# Altium footprint library Handheld.PcbLib: 77 footprints (part 4 of 5)
Each footprint in its own frame and in the unit in brackets; x right, y up, seen from the top. Pads: shape width x height; smd on the part's side, far side on the other; paste and mask are expansions set on the pad; w line width, h text height; cw(c..) or ccw(c..) is an arc to the next point about the centre after c.
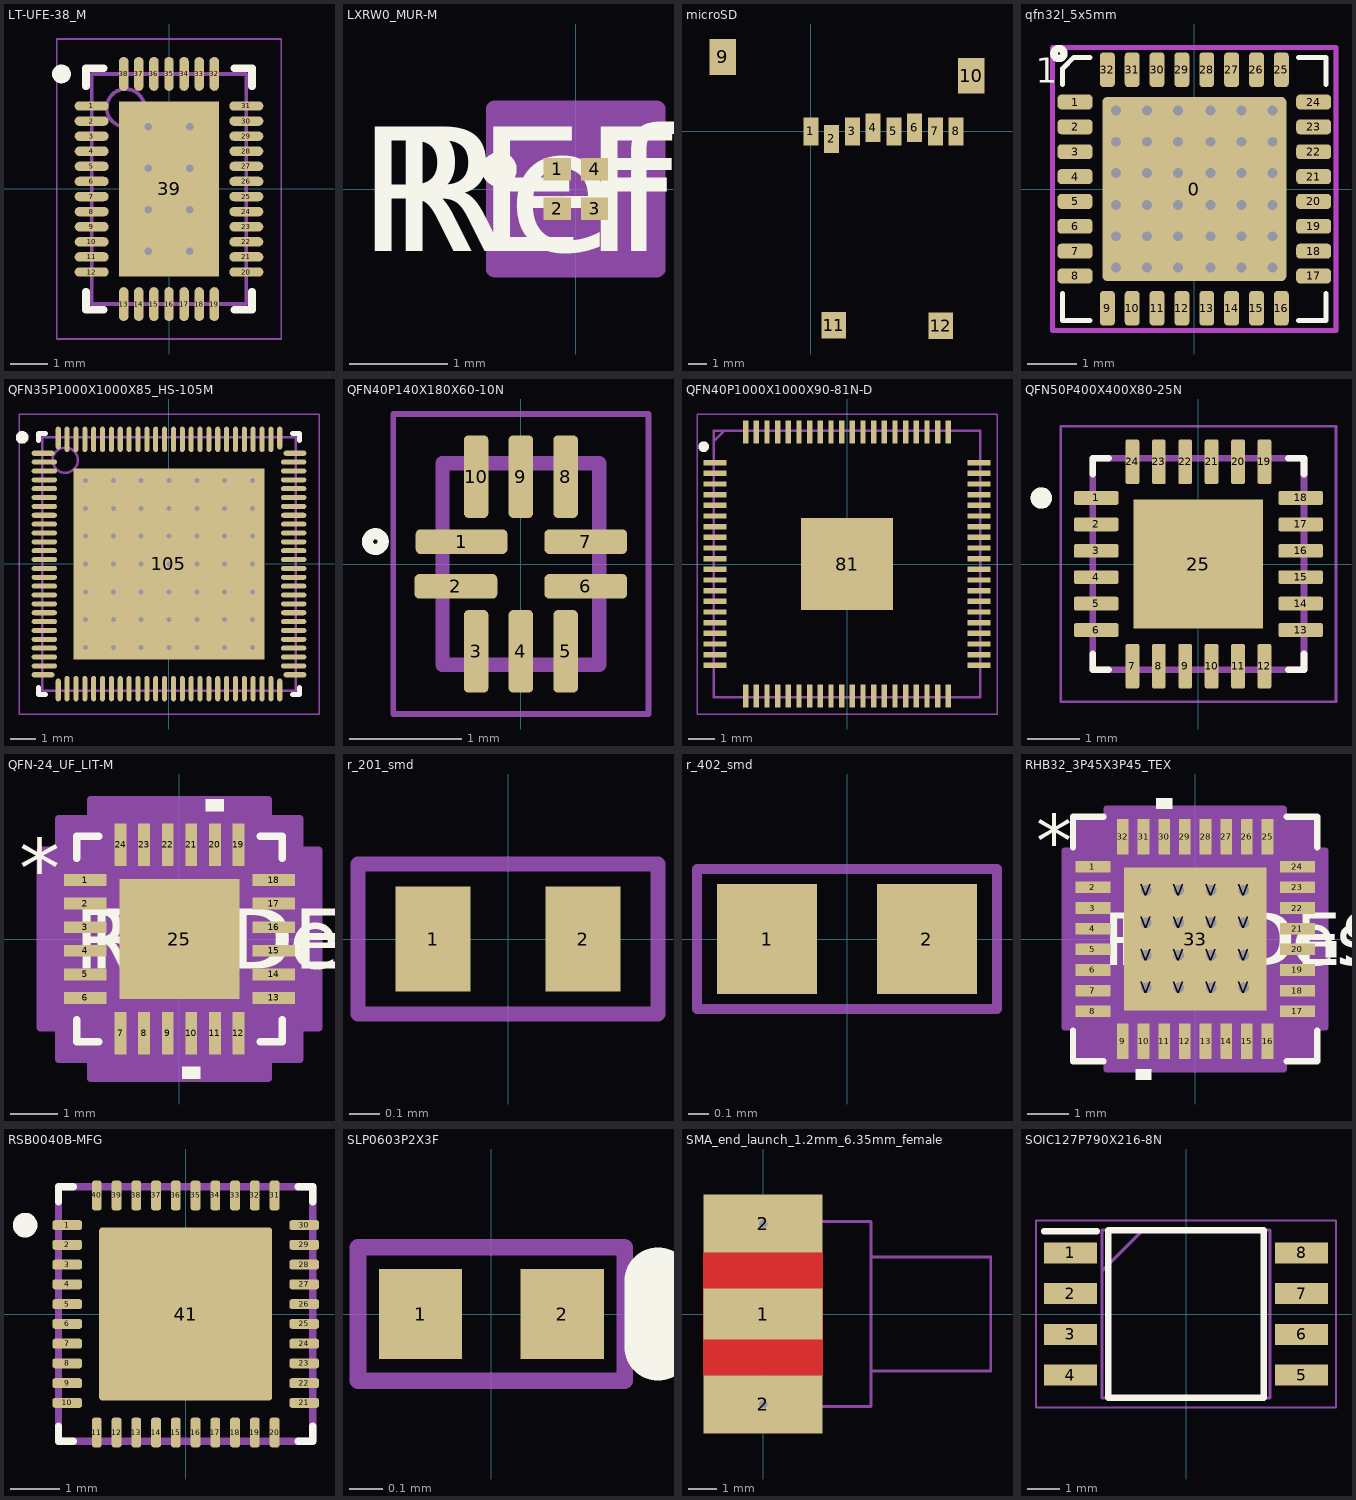
[diagram p3: the footprints below, top view; thin cyan lines are the x and y axes]

## LT-UFE-38_M [mm] "QFN, 38-Leads, Body 6.1x4.1mm, Pitch 0.4mm, Thermal Pad 2.65x4.65mm, IPC Low Density"
height 0.8
pads (39):
  oval 0.9x0.25 smd: 1(-2.05,2.2) 2(-2.05,1.8) 3(-2.05,1.4) 4(-2.05,1) 5(-2.05,0.6) 6(-2.05,0.2) 7(-2.05,-0.2) 8(-2.05,-0.6) 9(-2.05,-1) 10(-2.05,-1.4) 11(-2.05,-1.8) 12(-2.05,-2.2) 20(2.05,-2.2) 21(2.05,-1.8) 22(2.05,-1.4) 23(2.05,-1) 24(2.05,-0.6) 25(2.05,-0.2) 26(2.05,0.2) 27(2.05,0.6) 28(2.05,1) 29(2.05,1.4) 30(2.05,1.8) 31(2.05,2.2)
  oval 0.25x0.9 smd: 13(-1.2,-3.05) 14(-0.8,-3.05) 15(-0.4,-3.05) 16(0,-3.05) 17(0.4,-3.05) 18(0.8,-3.05) 19(1.2,-3.05) 32(1.2,3.05) 33(0.8,3.05) 34(0.4,3.05) 35(0,3.05) 36(-0.4,3.05) 37(-0.8,3.05) 38(-1.2,3.05)
  rect 2.65x4.65 smd: 39(0,0)
via 0.55,-1.65 diameter 0.5 hole 0.2
via -0.55,-1.65 diameter 0.5 hole 0.2
via 0.55,-0.55 diameter 0.5 hole 0.2
via -0.55,-0.55 diameter 0.5 hole 0.2
via 0.55,0.55 diameter 0.5 hole 0.2
via -0.55,0.55 diameter 0.5 hole 0.2
via 0.55,1.65 diameter 0.5 hole 0.2
via -0.55,1.65 diameter 0.5 hole 0.2
Top Overlay:
  circle w0.25: c-2.85,3.05 r0.125
  lines w0.2: -2.2,-2.725 -2.2,-3.2 -1.725,-3.2 ; -2.2,2.725 -2.2,3.2 -1.725,3.2 ; 1.725,-3.2 2.2,-3.2 2.2,-2.725 ; 1.725,3.2 2.2,3.2 2.2,2.725
Mechanical 13:
  circle w0.1: c-1.15,2.15 r0.5
  lines w0.1: -2.05,-3.05 2.05,-3.05 2.05,3.05 -2.05,3.05 -2.05,-3.05
Mechanical 15:
  lines w0.05: -2.975,-3.975 2.975,-3.975 2.975,3.975 -2.975,3.975 -2.975,-3.975
  lines w0.1: -0.5,0 0.5,0 ; 0,-0.5 0,0.5
3D body: height 0.8, standoff 0, extent -2.05,-3.05 2.05,3.05

## LXRW0_MUR-M [mil]
pads (4):
  rect 11x9 smd paste+0 mask+0: 1(-7.5,7.87) 2(-7.5,-7.87) 3(7.5,-7.87) 4(7.5,7.87)
Top Overlay:
  circle w6: c-30.75,7.87 r4
  text "RefDes" at -75,-25 h50
  text "REFDES" at -87.5,-25 h50
Mechanical 13:
  circle w0: c-2,7.87 r3
  lines w0: -12,12.5 ccw(c0,12.5) 12,12.5
  lines w1: -12.5,-12.5 12.5,-12.5 12.5,12.5 -12.5,12.5 -12.5,-12.5
  text "RefDes2" at -87.5,-25 h50
Mechanical 15:
  region: -32.5,-32.37 -33,-32.37 -33,32.37 -32.5,32.37 -32.5,32.5 32.5,32.5 32.5,32.37 33,32.37 33,-32.37 32.5,-32.37 32.5,-32.5 -32.5,-32.5
  lines w6: -33,-32.37 -33,32.37 -32.5,32.37 -32.5,32.5 32.5,32.5 32.5,32.37 33,32.37 33,-32.37 32.5,-32.37 32.5,-32.5 -32.5,-32.5 -32.5,-32.37 -33,-32.37
3D body "LXRW0_MUR.step": height 12.09, standoff 0, extent -12.52,-12.52 12.52,12.52

## microSD [mm]
pads (12):
  rect 0.8x1.5 smd: 1(0,0) 2(1.1,-0.4) 3(2.2,0) 4(3.3,0.2) 5(4.4,0) 6(5.5,0.2) 7(6.6,0) 8(7.7,0)
  rect 1.4x1.9 smd: 9(-4.675,3.95) 10(8.5,2.95)
  rect 1.3x1.4 smd: 11(1.2,-10.275) 12(6.875,-10.3)
3D body "wurthSDcard.stp": height 1.83, standoff -0.07, extent -5.05,-10.68 8.95,4.53

## qfn32l_5x5mm [mm] "32 Leads, Body 5.0x5.0mm, Pitch 0.50mm, QFN32L"
height 1
pads (33):
  rrect5% 3.7x3.7 smd paste-3.2 mask+0.03: 0(0,0)
  rrect50% 0.7x0.3 smd mask+0.03: 1(-2.4,1.75) 2(-2.4,1.25) 3(-2.4,0.75) 4(-2.4,0.25) 5(-2.4,-0.25) 6(-2.4,-0.75) 7(-2.4,-1.25) 8(-2.4,-1.75) 17(2.4,-1.75) 18(2.4,-1.25) 19(2.4,-0.75) 20(2.4,-0.25) 21(2.4,0.25) 22(2.4,0.75) 23(2.4,1.25) 24(2.4,1.75)
  rrect50% 0.3x0.7 smd mask+0.03: 9(-1.75,-2.4) 10(-1.25,-2.4) 11(-0.75,-2.4) 12(-0.25,-2.4) 13(0.25,-2.4) 14(0.75,-2.4) 15(1.25,-2.4) 16(1.75,-2.4) 25(1.75,2.4) 26(1.25,2.4) 27(0.75,2.4) 28(0.25,2.4) 29(-0.25,2.4) 30(-0.75,2.4) 31(-1.25,2.4) 32(-1.75,2.4)
via -1.575,1.575 diameter 0.4 hole 0.2
via 1.575,1.575 diameter 0.4 hole 0.2
via 0.95,1.575 diameter 0.4 hole 0.2
via -0.95,1.575 diameter 0.4 hole 0.2
via 0.325,1.575 diameter 0.4 hole 0.2
via -0.325,1.575 diameter 0.4 hole 0.2
via -1.575,0.95 diameter 0.4 hole 0.2
via 1.575,0.95 diameter 0.4 hole 0.2
via 0.95,0.95 diameter 0.4 hole 0.2
via -0.95,0.95 diameter 0.4 hole 0.2
via 0.325,0.95 diameter 0.4 hole 0.2
via -0.325,0.95 diameter 0.4 hole 0.2
via -1.575,0.325 diameter 0.4 hole 0.2
via 1.575,0.325 diameter 0.4 hole 0.2
via 0.95,0.325 diameter 0.4 hole 0.2
via -0.95,0.325 diameter 0.4 hole 0.2
via 0.325,0.325 diameter 0.4 hole 0.2
via -0.325,0.325 diameter 0.4 hole 0.2
via -1.575,-0.325 diameter 0.4 hole 0.2
via 1.575,-0.325 diameter 0.4 hole 0.2
via 0.95,-0.325 diameter 0.4 hole 0.2
via -0.95,-0.325 diameter 0.4 hole 0.2
via 0.325,-0.325 diameter 0.4 hole 0.2
via -0.325,-0.325 diameter 0.4 hole 0.2
via -1.575,-0.95 diameter 0.4 hole 0.2
via 1.575,-0.95 diameter 0.4 hole 0.2
via 0.95,-0.95 diameter 0.4 hole 0.2
via -0.95,-0.95 diameter 0.4 hole 0.2
via 0.325,-0.95 diameter 0.4 hole 0.2
via -0.325,-0.95 diameter 0.4 hole 0.2
via -0.325,-1.575 diameter 0.4 hole 0.2
via 0.325,-1.575 diameter 0.4 hole 0.2
via -0.95,-1.575 diameter 0.4 hole 0.2
via 0.95,-1.575 diameter 0.4 hole 0.2
via 1.575,-1.575 diameter 0.4 hole 0.2
via -1.575,-1.575 diameter 0.4 hole 0.2
Top Overlay:
  circle w0.15: c-2.725,2.725 r0.1
  lines w0.1: -2.65,-2.1 -2.65,-2.65 -2.1,-2.65 ; -2.65,2.1 -2.65,2.425 -2.425,2.65 -2.1,2.65 ; 2.1,-2.65 2.65,-2.65 2.65,-2.1 ; 2.1,2.65 2.65,2.65 2.65,2.1
  text "1" at -3.185,2.14 h0.5
Top Paste:
  region: -0.55,1.7 -0.55,0.6 0.55,0.6 0.55,1.7
  region: 0.6,1.7 0.6,0.6 1.7,0.6 1.7,1.7
  region: -1.7,1.7 -1.7,0.6 -0.6,0.6 -0.6,1.7
  region: -1.7,0.55 -1.7,-0.55 -0.6,-0.55 -0.6,0.55
  region: 0.6,0.55 0.6,-0.55 1.7,-0.55 1.7,0.55
  region: -0.55,0.55 -0.55,-0.55 0.55,-0.55 0.55,0.55
  region: -1.7,-0.6 -1.7,-1.7 -0.6,-1.7 -0.6,-0.6
  region: 0.6,-0.6 0.6,-1.7 1.7,-1.7 1.7,-0.6
  region: -0.55,-0.6 -0.55,-1.7 0.55,-1.7 0.55,-0.6
Mechanical 15 keep-out:
  lines w0.1: -2.85,-2.85 -2.85,2.85 2.85,2.85 2.85,-2.85 -2.85,-2.85
3D body "QFN32_5x5.STEP": height 1, standoff 0, extent -2.5,-2.5 2.5,2.5

## QFN35P1000X1000X85_HS-105M [mm] "QFN, 104-Leads, Body 10.00x10.00mm, Pitch 0.35mm, Thermal Pad 7.55x7.55mm, IPC Low Density"
height 0.85
pads (105):
  oval 0.9x0.2 smd: 1(-4.975,4.375) 26(-4.975,-4.375) 53(4.975,-4.375) 78(4.975,4.375)
  oval 1x0.2 smd: 2(-4.925,4.025) 3(-4.925,3.675) 4(-4.925,3.325) 5(-4.925,2.975) 6(-4.925,2.625) 7(-4.925,2.275) 8(-4.925,1.925) 9(-4.925,1.575) 10(-4.925,1.225) 11(-4.925,0.875) 12(-4.925,0.525) 13(-4.925,0.175) 14(-4.925,-0.175) 15(-4.925,-0.525) 16(-4.925,-0.875) 17(-4.925,-1.225) 18(-4.925,-1.575) 19(-4.925,-1.925) 20(-4.925,-2.275) 21(-4.925,-2.625) 22(-4.925,-2.975) 23(-4.925,-3.325) 24(-4.925,-3.675) 25(-4.925,-4.025) 54(4.925,-4.025) 55(4.925,-3.675) 56(4.925,-3.325) 57(4.925,-2.975) 58(4.925,-2.625) 59(4.925,-2.275) 60(4.925,-1.925) 61(4.925,-1.575) 62(4.925,-1.225) 63(4.925,-0.875) 64(4.925,-0.525) 65(4.925,-0.175) 66(4.925,0.175) 67(4.925,0.525) 68(4.925,0.875) 69(4.925,1.225) 70(4.925,1.575) 71(4.925,1.925) 72(4.925,2.275) 73(4.925,2.625) 74(4.925,2.975) 75(4.925,3.325) 76(4.925,3.675) 77(4.925,4.025)
  oval 0.2x0.9 smd: 27(-4.375,-4.975) 52(4.375,-4.975) 79(4.375,4.975) 104(-4.375,4.975)
  oval 0.2x1 smd: 28(-4.025,-4.925) 29(-3.675,-4.925) 30(-3.325,-4.925) 31(-2.975,-4.925) 32(-2.625,-4.925) 33(-2.275,-4.925) 34(-1.925,-4.925) 35(-1.575,-4.925) 36(-1.225,-4.925) 37(-0.875,-4.925) 38(-0.525,-4.925) 39(-0.175,-4.925) 40(0.175,-4.925) 41(0.525,-4.925) 42(0.875,-4.925) 43(1.225,-4.925) 44(1.575,-4.925) 45(1.925,-4.925) 46(2.275,-4.925) 47(2.625,-4.925) 48(2.975,-4.925) 49(3.325,-4.925) 50(3.675,-4.925) 51(4.025,-4.925) 80(4.025,4.925) 81(3.675,4.925) 82(3.325,4.925) 83(2.975,4.925) 84(2.625,4.925) 85(2.275,4.925) 86(1.925,4.925) 87(1.575,4.925) 88(1.225,4.925) 89(0.875,4.925) 90(0.525,4.925) 91(0.175,4.925) 92(-0.175,4.925) 93(-0.525,4.925) 94(-0.875,4.925) 95(-1.225,4.925) 96(-1.575,4.925) 97(-1.925,4.925) 98(-2.275,4.925) 99(-2.625,4.925) 100(-2.975,4.925) 101(-3.325,4.925) 102(-3.675,4.925) 103(-4.025,4.925)
  rect 7.55x7.55 smd: 105(0,0)
via -3.3,3.3 diameter 0.5 hole 0.2
via -2.2,3.3 diameter 0.5 hole 0.2
via -1.1,3.3 diameter 0.5 hole 0.2
via 0,3.3 diameter 0.5 hole 0.2
via 1.1,3.3 diameter 0.5 hole 0.2
via 2.2,3.3 diameter 0.5 hole 0.2
via 3.3,3.3 diameter 0.5 hole 0.2
via -3.3,2.2 diameter 0.5 hole 0.2
via -2.2,2.2 diameter 0.5 hole 0.2
via -1.1,2.2 diameter 0.5 hole 0.2
via 0,2.2 diameter 0.5 hole 0.2
via 1.1,2.2 diameter 0.5 hole 0.2
via 2.2,2.2 diameter 0.5 hole 0.2
via 3.3,2.2 diameter 0.5 hole 0.2
via -3.3,1.1 diameter 0.5 hole 0.2
via -2.2,1.1 diameter 0.5 hole 0.2
via -1.1,1.1 diameter 0.5 hole 0.2
via 0,1.1 diameter 0.5 hole 0.2
via 1.1,1.1 diameter 0.5 hole 0.2
via 2.2,1.1 diameter 0.5 hole 0.2
via 3.3,1.1 diameter 0.5 hole 0.2
via -3.3,0 diameter 0.5 hole 0.2
via -2.2,0 diameter 0.5 hole 0.2
via -1.1,0 diameter 0.5 hole 0.2
via 0,0 diameter 0.5 hole 0.2
via 1.1,0 diameter 0.5 hole 0.2
via 2.2,0 diameter 0.5 hole 0.2
via 3.3,0 diameter 0.5 hole 0.2
via -3.3,-1.1 diameter 0.5 hole 0.2
via -2.2,-1.1 diameter 0.5 hole 0.2
via -1.1,-1.1 diameter 0.5 hole 0.2
via 0,-1.1 diameter 0.5 hole 0.2
via 1.1,-1.1 diameter 0.5 hole 0.2
via 2.2,-1.1 diameter 0.5 hole 0.2
via 3.3,-1.1 diameter 0.5 hole 0.2
via -3.3,-2.2 diameter 0.5 hole 0.2
via -2.2,-2.2 diameter 0.5 hole 0.2
via -1.1,-2.2 diameter 0.5 hole 0.2
via 0,-2.2 diameter 0.5 hole 0.2
via 1.1,-2.2 diameter 0.5 hole 0.2
via 2.2,-2.2 diameter 0.5 hole 0.2
via 3.3,-2.2 diameter 0.5 hole 0.2
via -3.3,-3.3 diameter 0.5 hole 0.2
via -2.2,-3.3 diameter 0.5 hole 0.2
via -1.1,-3.3 diameter 0.5 hole 0.2
via 0,-3.3 diameter 0.5 hole 0.2
via 1.1,-3.3 diameter 0.5 hole 0.2
via 2.2,-3.3 diameter 0.5 hole 0.2
via 3.3,-3.3 diameter 0.5 hole 0.2
Top Overlay:
  circle w0.25: c-5.8,5 r0.125
  lines w0.2: -5.15,-4.875 -5.15,-5.15 -4.875,-5.15 ; -5.15,4.875 -5.15,5.15 -4.875,5.15 ; 4.875,-5.15 5.15,-5.15 5.15,-4.875 ; 4.875,5.15 5.15,5.15 5.15,4.875
Mechanical 13:
  circle w0.1: c-4.1,4.1 r0.5
  lines w0.1: -5,-5 -5,5 5,5 5,-5 -5,-5
Mechanical 15:
  lines w0.05: -5.925,-5.925 -5.925,5.925 5.925,5.925 5.925,-5.925 -5.925,-5.925
  lines w0.1: -0.5,0 0.5,0 ; 0,-0.5 0,0.5
3D body: height 0.85, standoff 0.02, extent -5,-5 5,5

## QFN40P140X180X60-10N [mm]
pads (10):
  rrect40% 0.82x0.22 smd mask+0: 1(-0.53,0.2)
  rrect40% 0.74x0.22 smd mask+0: 2(-0.58,-0.2) 6(0.58,-0.2) 7(0.58,0.2)
  rrect40% 0.22x0.74 smd mask+0: 3(-0.4,-0.78) 4(0,-0.78) 5(0.4,-0.78) 8(0.4,0.78) 9(0,0.78) 10(-0.4,0.78)
Top Overlay:
  circle w0.1: c-1.3,0.2 r0.07
Top Solder:
  region: -0.25,0.371 -0.551,0.371 -0.551,1.2 -0.25,1.2
  region: 0.15,0.371 -0.15,0.371 -0.15,1.2 0.15,1.2
  region: 0.55,0.37 0.25,0.37 0.25,1.2 0.55,1.2
  region: -0.25,-1.204 -0.552,-1.204 -0.552,-0.37 -0.25,-0.37
  region: 0.15,-1.202 -0.15,-1.202 -0.15,-0.37 0.15,-0.37
  region: 0.55,-1.203 0.251,-1.203 0.251,-0.37 0.55,-0.37
  region: -0.08,0.05 -0.991,0.05 -0.991,0.35 -0.08,0.35
  region: 0.99,0.05 0.171,0.05 0.171,0.35 0.99,0.35
  region: -0.17,-0.351 -0.992,-0.351 -0.992,-0.05 -0.17,-0.05
  region: 0.99,-0.35 0.17,-0.35 0.17,-0.05 0.99,-0.05
Mechanical 13:
  lines w0.127: -0.7,-0.9 0.7,-0.9 0.7,0.9 -0.7,0.9 -0.7,-0.9
Mechanical 15:
  lines w0.05: -1.14,-1.34 1.14,-1.34 1.14,1.34 -1.14,1.34 -1.14,-1.34

## QFN40P1000X1000X90-81N-D [mm]
pads (81):
  rect 0.85x0.2 smd: 1(-4.95,3.8) 2(-4.95,3.4) 3(-4.95,3) 4(-4.95,2.6) 5(-4.95,2.2) 6(-4.95,1.8) 7(-4.95,1.4) 8(-4.95,1) 9(-4.95,0.6) 10(-4.95,0.2) 11(-4.95,-0.2) 12(-4.95,-0.6) 13(-4.95,-1) 14(-4.95,-1.4) 15(-4.95,-1.8) 16(-4.95,-2.2) 17(-4.95,-2.6) 18(-4.95,-3) 19(-4.95,-3.4) 20(-4.95,-3.8) 41(4.95,-3.8) 42(4.95,-3.4) 43(4.95,-3) 44(4.95,-2.6) 45(4.95,-2.2) 46(4.95,-1.8) 47(4.95,-1.4) 48(4.95,-1) 49(4.95,-0.6) 50(4.95,-0.2) 51(4.95,0.2) 52(4.95,0.6) 53(4.95,1) 54(4.95,1.4) 55(4.95,1.8) 56(4.95,2.2) 57(4.95,2.6) 58(4.95,3) 59(4.95,3.4) 60(4.95,3.8)
  rect 0.2x0.85 smd: 21(-3.8,-4.95) 22(-3.4,-4.95) 23(-3,-4.95) 24(-2.6,-4.95) 25(-2.2,-4.95) 26(-1.8,-4.95) 27(-1.4,-4.95) 28(-1,-4.95) 29(-0.6,-4.95) 30(-0.2,-4.95) 31(0.2,-4.95) 32(0.6,-4.95) 33(1,-4.95) 34(1.4,-4.95) 35(1.8,-4.95) 36(2.2,-4.95) 37(2.6,-4.95) 38(3,-4.95) 39(3.4,-4.95) 40(3.8,-4.95) 61(3.8,4.95) 62(3.4,4.95) 63(3,4.95) 64(2.6,4.95) 65(2.2,4.95) 66(1.8,4.95) 67(1.4,4.95) 68(1,4.95) 69(0.6,4.95) 70(0.2,4.95) 71(-0.2,4.95) 72(-0.6,4.95) 73(-1,4.95) 74(-1.4,4.95) 75(-1.8,4.95) 76(-2.2,4.95) 77(-2.6,4.95) 78(-3,4.95) 79(-3.4,4.95) 80(-3.8,4.95)
  rect 3.45x3.45 smd: 81(0,0)
Top Overlay:
  circle w0.2: c-5.375,4.4 r0.1
Mechanical 15:
  lines w0.1: -5,4.6 -4.6,5 ; -5,-5 5,-5 5,5 -5,5 -5,-5
Mechanical 20:
  lines w0.05: -5.625,-5.625 5.625,-5.625 5.625,5.625 -5.625,5.625 -5.625,-5.625
3D body "RP2350B.stp": height 0.9, standoff 0, extent -5.05,-5.05 5.05,5.05

## QFN50P400X400X80-25N [mm]
pads (25):
  rrect25% 0.84x0.26 smd: 1(-1.935,1.25) 2(-1.935,0.75) 3(-1.935,0.25) 4(-1.935,-0.25) 5(-1.935,-0.75) 6(-1.935,-1.25) 13(1.935,-1.25) 14(1.935,-0.75) 15(1.935,-0.25) 16(1.935,0.25) 17(1.935,0.75) 18(1.935,1.25)
  rrect25% 0.26x0.84 smd: 7(-1.25,-1.935) 8(-0.75,-1.935) 9(-0.25,-1.935) 10(0.25,-1.935) 11(0.75,-1.935) 12(1.25,-1.935) 19(1.25,1.935) 20(0.75,1.935) 21(0.25,1.935) 22(-0.25,1.935) 23(-0.75,1.935) 24(-1.25,1.935)
  rect 2.45x2.45 smd paste-2: 25(0,0)
Top Overlay:
  circle w0.2: c-2.975,1.25 r0.1
  lines w0.127: -2,-1.7 -2,-2 -1.7,-2 ; -2,1.7 -2,2 -1.7,2 ; 1.7,-2 2,-2 2,-1.7 ; 1.7,2 2,2 2,1.7
Top Paste:
  region: 0.77,-0.77 -0.77,-0.77 -0.77,0.77 0.77,0.77
Mechanical 13:
  circle w0.2: c-2.975,1.25 r0.1
  lines w0.127: -2,-2 2,-2 2,2 -2,2 -2,-2
Mechanical 15:
  lines w0.05: -2.605,-2.605 2.605,-2.605 2.605,2.605 -2.605,2.605 -2.605,-2.605
3D body "step_temp.STEP": height 0.8, standoff 0, extent -2,-2 2,2

## QFN-24_UF_LIT-M [mm]
pads (25):
  rect 0.9x0.25 smd paste+0 mask+0: 1(-2,1.25) 2(-2,0.75) 3(-2,0.25) 4(-2,-0.25) 5(-2,-0.75) 6(-2,-1.25) 13(2,-1.25) 14(2,-0.75) 15(2,-0.25) 16(2,0.25) 17(2,0.75) 18(2,1.25)
  rect 0.25x0.9 smd paste+0 mask+0: 7(-1.25,-2) 8(-0.75,-2) 9(-0.25,-2) 10(0.25,-2) 11(0.75,-2) 12(1.25,-2) 19(1.25,2) 20(0.75,2) 21(0.25,2) 22(-0.25,2) 23(-0.75,2) 24(-1.25,2)
  rect 2.55x2.55 smd paste-1.275 mask+0: 25(0,0)
Top Overlay:
  region: 0.44,-2.704 0.059,-2.704 0.059,-2.958 0.44,-2.958
  region: 0.941,2.704 0.56,2.704 0.56,2.958 0.941,2.958
  lines w0.152: -2.177,-1.708 -2.177,-2.177 -1.708,-2.177 ; -2.177,1.708 -2.177,2.177 -1.708,2.177 ; 1.708,-2.177 2.177,-2.177 2.177,-1.708 ; 1.708,2.177 2.177,2.177 2.177,1.708
  text "*" at -3.403,0.865 h1.27
  text "RefDes" at -1.905,-0.635 h1.27
  text "REFDES" at -2.222,-0.635 h1.27
Top Paste:
  region: -0.1,1.175 -1.175,1.175 -1.175,0.1 -0.1,0.1
  region: -0.1,-0.1 -1.175,-0.1 -1.175,-1.175 -0.1,-1.175
  region: 1.175,1.175 0.1,1.175 0.1,0.1 1.175,0.1
  region: 1.175,-0.1 0.1,-0.1 0.1,-1.175 1.175,-1.175
Mechanical 13:
  lines w0.025: -2.05,0.78 -0.78,2.05 ; -2.05,-2.05 2.05,-2.05 2.05,2.05 -2.05,2.05 -2.05,-2.05 ; -2.05,-1.4 -2.05,-1.1 -2.05,-1.4 ; -2.05,-0.9 -2.05,-0.6 -2.05,-0.9 ; -2.05,-0.4 -2.05,-0.1 -2.05,-0.4 ; -2.05,0.1 -2.05,0.4 -2.05,0.1 ; -2.05,0.6 -2.05,0.9 -2.05,0.6 ; -2.05,1.1 -2.05,1.4 -2.05,1.1 ; -1.4,-2.05 -1.1,-2.05 -1.4,-2.05 ; -1.4,2.05 -1.1,2.05 -1.4,2.05 ; -0.9,-2.05 -0.6,-2.05 -0.9,-2.05 ; -0.9,2.05 -0.6,2.05 -0.9,2.05 ; -0.4,-2.05 -0.1,-2.05 -0.4,-2.05 ; -0.4,2.05 -0.1,2.05 -0.4,2.05 ; 0.1,-2.05 0.4,-2.05 0.1,-2.05 ; 0.1,2.05 0.4,2.05 0.1,2.05 ; 0.6,-2.05 0.9,-2.05 0.6,-2.05 ; 0.6,2.05 0.9,2.05 0.6,2.05 ; 1.1,-2.05 1.4,-2.05 1.1,-2.05 ; 1.1,2.05 1.4,2.05 1.1,2.05 ; 2.05,-1.4 2.05,-1.1 2.05,-1.4 ; 2.05,-0.9 2.05,-0.6 2.05,-0.9 ; 2.05,-0.4 2.05,-0.1 2.05,-0.4 ; 2.05,0.1 2.05,0.4 2.05,0.1 ; 2.05,0.6 2.05,0.9 2.05,0.6 ; 2.05,1.1 2.05,1.4 2.05,1.1
  text "*" at -1.867,0.865 h1.27
  text "RefDes2" at -2.222,-0.635 h1.27
Mechanical 15:
  region: -1.883,-2.558 -2.558,-2.558 -2.558,-1.883 -2.958,-1.883 -2.958,1.883 -2.558,1.883 -2.558,2.558 -1.883,2.558 -1.883,2.958 1.883,2.958 1.883,2.558 2.558,2.558 2.558,1.883 2.958,1.883 2.958,-1.883 2.558,-1.883 2.558,-2.558 1.883,-2.558 1.883,-2.958 -1.883,-2.958
  lines w0.152: -2.958,-1.883 -2.558,-1.883 -2.558,-2.558 -1.883,-2.558 -1.883,-2.958 1.883,-2.958 1.883,-2.558 2.558,-2.558 2.558,-1.883 2.958,-1.883 2.958,1.883 2.558,1.883 2.558,2.558 1.883,2.558 1.883,2.958 -1.883,2.958 -1.883,2.558 -2.558,2.558 -2.558,1.883 -2.958,1.883 -2.958,-1.883
3D body "QFN-24_UF_LIT.step": height 0.8, standoff 0, extent -2.05,-2.05 2.05,2.05

## r_201_smd [mm] "Chip SMD component 201; Body 0.6 x 0.3 mm (LxW typ); small footprint"
height 0.3
pads (2):
  rect 0.25x0.35 smd paste+0 mask+0.025: 1(-0.25,0) 2(0.25,0)
Mechanical 15:
  lines w0.05: -0.5,-0.25 -0.5,0.25 0.5,0.25 0.5,-0.25 -0.5,-0.25
3D body "step_temp.STEP": height 0.28, standoff 0, extent -0.3,-0.15 0.3,0.15

## r_402_smd [mm] "Chip SMD component 402; Body 1.0 x 0.5 mm (LxW typ);small footprint"
height 0.8
pads (2):
  rect 0.5x0.55 smd mask+0.025: 1(-0.4,0) 2(0.4,0)
Mechanical 15:
  lines w0.05: -0.75,-0.35 0.75,-0.35 0.75,0.35 -0.75,0.35 -0.75,-0.35
3D body "ERJ-2GEJ244X.STEP": height 0.4, standoff 0, extent -0.5,-0.25 0.5,0.25

## RHB32_3P45X3P45_TEX [mil]
pads (49):
  rect 33.46x11.02 smd paste-16.23 mask+0: 1(-97.44,68.9) 2(-97.44,49.21) 3(-97.44,29.53) 4(-97.44,9.84) 5(-97.44,-9.84) 6(-97.44,-29.53) 7(-97.44,-49.21) 8(-97.44,-68.9) 17(97.44,-68.9) 18(97.44,-49.21) 19(97.44,-29.53) 20(97.44,-9.84) 21(97.44,9.84) 22(97.44,29.53) 23(97.44,49.21) 24(97.44,68.9)
  rect 11.02x33.46 smd paste-16.23 mask+0: 9(-68.92,-97.44) 10(-49.23,-97.44) 11(-29.54,-97.44) 12(-9.85,-97.44) 13(9.85,-97.44) 14(29.54,-97.44) 15(49.23,-97.44) 16(68.92,-97.44) 25(68.92,97.44) 26(49.23,97.44) 27(29.54,97.44) 28(9.85,97.44) 29(-9.85,97.44) 30(-29.54,97.44) 31(-49.23,97.44) 32(-68.92,97.44)
  rect 135.83x135.83 smd paste-67.41 mask-67.5: 33(0,0)
  round 20 / inner round 60 / far side round 20 hole 10 paste-99999 mask-10: V(-46.5,-46.5) V(-46.5,-15.5) V(-46.5,15.5) V(-46.5,46.5) V(-15.5,-46.5) V(-15.5,-15.5) V(-15.5,15.5) V(-15.5,46.5) V(15.5,-46.5) V(15.5,-15.5) V(15.5,15.5) V(15.5,46.5) V(46.5,-46.5) V(46.5,-15.5) V(46.5,15.5) V(46.5,46.5)
Top Overlay:
  region: -22.04,124.17 -37.03,124.17 -37.03,134.17 -22.04,134.17
  region: 124.17,-2.34 134.17,-2.34 134.17,-17.34 124.17,-17.34
  region: -41.73,-124.17 -56.73,-124.17 -56.73,-134.17 -41.73,-134.17
  lines w6: -116.38,-87.32 -116.38,-116.38 -87.34,-116.38 ; -116.38,87.32 -116.38,116.38 -87.34,116.38 ; 87.34,-116.38 116.38,-116.38 116.38,-87.32 ; 87.34,116.38 116.38,116.38 116.38,87.32
  text "REFDES" at -87.5,-25 h50
  text "RefDes" at -75,-25 h50
  text "*" at -151.67,68.74 h50
Top Paste:
  drawing of 25 lines, arcs and shapes, not listed
Top Solder:
  region: 54.37,-70.41 54.37,70.41 70.41,70.41 70.41,-70.41
  region: 38.63,-70.41 38.63,70.41 23.37,70.41 23.37,-70.41
  region: 7.63,-70.41 7.63,70.41 -7.63,70.41 -7.63,-70.41
  region: -23.37,-70.41 -23.37,70.41 -38.63,70.41 -38.63,-70.41
  region: -70.41,-70.41 -70.41,70.41 -54.37,70.41 -54.37,-70.41
  region: -70.41,-70.41 -70.41,-54.37 70.41,-54.37 70.41,-70.41
  region: -70.41,-38.63 -70.41,-23.37 70.41,-23.37 70.41,-38.63
  region: -70.41,-7.63 -70.41,7.63 70.41,7.63 70.41,-7.63
  region: -70.41,23.37 -70.41,38.63 70.41,38.63 70.41,23.37
  region: -70.41,54.37 -70.41,70.41 70.41,70.41 70.41,54.37
Mechanical 13:
  lines w1: -101.38,51.38 -51.38,101.38 ; -101.38,-101.38 -101.38,101.38 101.38,101.38 101.38,-101.38 -101.38,-101.38
  text "RefDes2" at -87.5,-25 h50
  text "*" at -83.21,53.74 h50
Mechanical 15:
  region: -84.43,-111.38 -111.38,-111.38 -111.38,-84.41 -124.17,-84.41 -124.17,84.41 -111.38,84.41 -111.38,111.38 -84.43,111.38 -84.43,124.17 84.43,124.17 84.43,111.38 111.38,111.38 111.38,84.41 124.17,84.41 124.17,-84.41 111.38,-84.41 111.38,-111.38 84.43,-111.38 84.43,-124.17 -84.43,-124.17
  lines w6: -124.17,-84.41 -124.17,84.41 -111.38,84.41 -111.38,111.38 -84.43,111.38 -84.43,124.17 84.43,124.17 84.43,111.38 111.38,111.38 111.38,84.41 124.17,84.41 124.17,-84.41 111.38,-84.41 111.38,-111.38 84.43,-111.38 84.43,-124.17 -84.43,-124.17 -84.43,-111.38 -111.38,-111.38 -111.38,-84.41 -124.17,-84.41
3D body "RHB32_3P45X3P45_TEX.step": height 55.12, standoff 0, extent -103.39,-103.39 103.39,103.39

## RSB0040B-MFG [mm]
pads (41):
  rrect50% 0.6x0.2 smd paste+0 mask+0: 1(-2.4,1.8) 2(-2.4,1.4) 3(-2.4,1) 4(-2.4,0.6) 5(-2.4,0.2) 6(-2.4,-0.2) 7(-2.4,-0.6) 8(-2.4,-1) 9(-2.4,-1.4) 10(-2.4,-1.8) 21(2.4,-1.8) 22(2.4,-1.4) 23(2.4,-1) 24(2.4,-0.6) 25(2.4,-0.2) 26(2.4,0.2) 27(2.4,0.6) 28(2.4,1) 29(2.4,1.4) 30(2.4,1.8)
  rrect50% 0.2x0.6 smd paste+0 mask+0: 11(-1.8,-2.4) 12(-1.4,-2.4) 13(-1,-2.4) 14(-0.6,-2.4) 15(-0.2,-2.4) 16(0.2,-2.4) 17(0.6,-2.4) 18(1,-2.4) 19(1.4,-2.4) 20(1.8,-2.4) 31(1.8,2.4) 32(1.4,2.4) 33(1,2.4) 34(0.6,2.4) 35(0.2,2.4) 36(-0.2,2.4) 37(-0.6,2.4) 38(-1,2.4) 39(-1.4,2.4) 40(-1.8,2.4)
  rrect3% 3.5x3.5 smd paste-1000 mask+0: 41(0,0)
Top Overlay:
  circle w0.25: c-3.25,1.8 r0.125
  lines w0.15: -2.575,-2.275 -2.575,-2.575 -2.275,-2.575 ; -2.575,2.275 -2.575,2.575 -2.275,2.575 ; 2.275,-2.575 2.575,-2.575 2.575,-2.275 ; 2.275,2.575 2.575,2.575 2.575,2.275
Top Paste:
  drawing of 9 lines, arcs and shapes, not listed
Top Assembly:
  lines w0.15: -2.575,-2.575 2.575,-2.575 2.575,2.575 -2.575,2.575 -2.575,-2.575
  text ".Designator" at 0,0 h0.5
3D body "IC_CC3301NG0ARSBR_WQFN40.STEP": height 0.25, standoff 0, extent -2.8,-2.8 2.8,2.8

## SLP0603P2X3F [mm] "Chip Diode; Body  0.6 x 0.3 mm (LxW typ)"
height 0.25
pads (2):
  rect 0.25x0.27 smd mask+0.025: 1(-0.212,0) 2(0.212,0)
Top Overlay:
  lines w0.2: 0.5,-0.1 0.5,0.1
Mechanical 15:
  lines w0.05: -0.4,-0.2 0.4,-0.2 0.4,0.2 -0.4,0.2 -0.4,-0.2
3D body "TVS_diode_0201.STEP": height 0.32, standoff 0, extent -0.3,-0.15 0.3,0.15

## SMA_end_launch_1.2mm_6.35mm_female [mil] "SMA end launch for 1.2mm PCB thickness; 6.35mm"
height 393.7
pads (3):
  rect 165x70 smd paste+0 mask+0.98: 1(0,0)
  rect 165x80 hole 11.81 paste-99999 mask+0.98: 2(0,-124.98) 2(0,124.98)
Top Layer:
  pour cut-out: 82.68,-84.65 -82.68,-84.65 -82.68,84.65 82.68,84.65
Mid-Layer 1:
  pour cut-out: 82.68,-84.65 -82.68,-84.65 -82.68,84.65 82.68,84.65
Mid-Layer 2:
  pour cut-out: 82.68,-84.65 -82.68,-84.65 -82.68,84.65 82.68,84.65
Mechanical 15:
  lines w0.39: -60.63,-85.04 82.68,-85.04 82.68,85.04 -60.63,85.04 -60.63,-85.04
  lines w3.94: 149.43,-78.74 149.43,78.74 ; 149.43,-78.74 149.43,-127.95 -63.78,-127.95 -63.78,127.95 149.43,127.95 149.43,78.74 ; 149.43,-78.74 314.96,-78.74 314.96,78.74 149.43,78.74
3D body "142-0711-841--3DModel-STEP-231308.STEP": height 125, standoff -125, extent -60.63,-125 464.37,125

## SOIC127P790X216-8N [mm]
pads (8):
  rect 1.65x0.65 smd: 1(-3.6,1.905) 2(-3.6,0.635) 3(-3.6,-0.635) 4(-3.6,-1.905) 5(3.6,-1.905) 6(3.6,-0.635) 7(3.6,0.635) 8(3.6,1.905)
Top Overlay:
  lines w0.2: -4.425,2.58 -2.775,2.58 ; -2.425,-2.615 -2.425,2.615 2.425,2.615 2.425,-2.615 -2.425,-2.615
Mechanical 15:
  lines w0.1: -2.615,1.345 -1.345,2.615 ; -2.615,-2.615 -2.615,2.615 2.615,2.615 2.615,-2.615 -2.615,-2.615
Mechanical 20:
  lines w0.05: -4.675,-2.915 -4.675,2.915 4.675,2.915 4.675,-2.915 -4.675,-2.915
3D body "W25Q128JVSIQ.stp": height 2.16, standoff 0, extent -3.95,-2.615 3.95,2.615